# EAGLE library part B5B-PH-SM4-TB(LF)(SN) (library con-jst_ph)
Check availability <https://pricing.snapeda.com/parts/B5B-PH-SM4-TB%28LF%29%28SN%29/JST%20Sales/view-part?ref=eda>
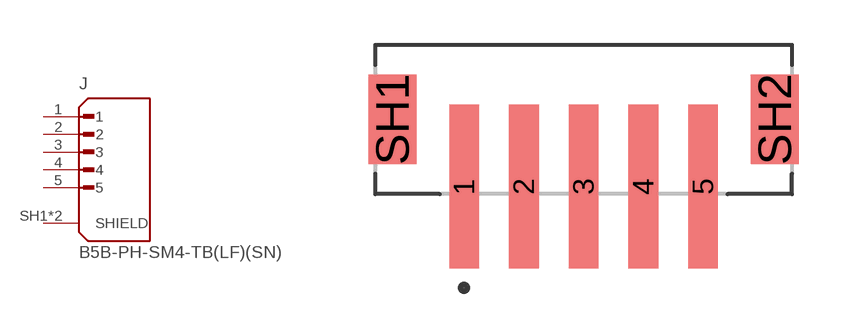
[diagram p3: symbol with the pads of JST_B5B-PH-SM4-TB(LF)(SN); footprint JST_B5B-PH-SM4-TB(LF)(SN)]

Designator prefix J

## B5B-PH-SM4-TB(LF)(SN) (AVAILABILITY: In Stock; CHECK_PRICES: https://www.snapeda.com/parts/B5B-PH-SM4-TB(LF)(SN)/JST+Sales+America+Inc./view-part/?ref=eda; DESCRIPTION: Connector Header Surface Mount 5 position 0.079 (2.00mm); MF: JST Sales; MP: B5B-PH-SM4-TB(LF)(SN); PACKAGE: NON STANDARD-5 JST; PRICE: None; SNAPEDA_LINK: https://www.snapeda.com/parts/B5B-PH-SM4-TB(LF)(SN)/JST+Sales+America+Inc./view-part/?ref=snap)  [JST_B5B-PH-SM4-TB(LF)(SN)]
1  1  pas
2  2  pas
3  3  pas
4  4  pas
5  5  pas
SH1  SHIELD  pas
SH2  SHIELD  pas

## Footprint JST_B5B-PH-SM4-TB(LF)(SN) (pad centres in mm)
smd 1 x 5.5: 1 -4,-2.25; 2 -2,-2.25; 3 0,-2.25; 4 2,-2.25; 5 4,-2.25
smd 1.6 x 3: SH1 -6.4,0; SH2 6.4,0